# EAGLE library part 615008145221 (library EagleLibrary_Wuerth_Elektronik_eiCan_Communication_Connectors_v6_20150113)
WR-MJ 45° Entry Shielded Vertical Modular Jack Standard Shelding Tail, 8 pins=>Code : Con_I-O_MJ-45_615008145221 <http://katalog.we-online.de/media/images/eican/Con_I-O_MJ-45_615008145x21_pf2.jpg> Details see: http://katalog.we-online.de/en/em/615_008_145_x21 Created 2014-07-10, Karrer Zheng 2014 (C) Würth Elektronik
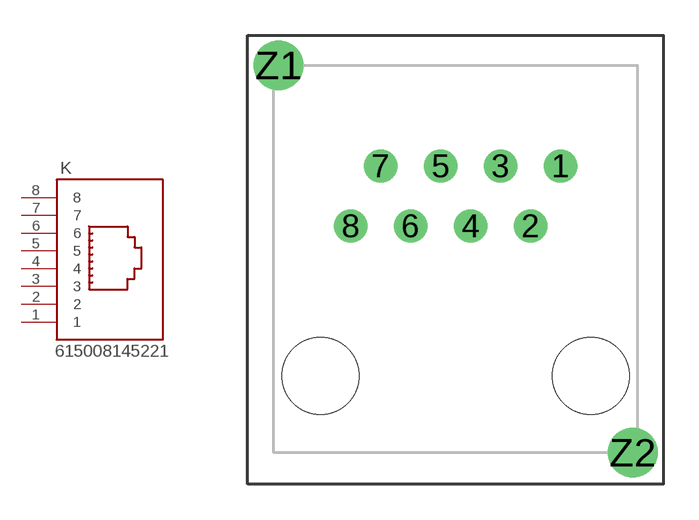
[diagram p121: symbol with the pads of 615008145221; footprint 615008145221]

Designator prefix K

## 615008145221  [615008145221]
1  1  pas
2  2  pas
3  3  pas
4  4  pas
5  5  pas
6  6  pas
7  7  pas
8  8  pas

## Footprint 615008145221 (pad centres in mm)
WR-MJ 45° Entry Shielded Vertical Modular Jack Standard Shelding Tail, 8 pins
drill 0.9: 1 4.445,1.27; 2 3.175,-1.27; 3 1.905,1.27; 4 0.635,-1.27; 5 -0.635,1.27; 6 -1.905,-1.27; 7 -3.175,1.27; 8 -4.445,-1.27
drill 1.4: Z1 -7.5,5.53; Z2 7.5,-10.87
hole 3.25 at -5.715,-7.62
hole 3.25 at 5.715,-7.62